# Altium footprint library RLC.PcbLib: 151 footprints (part 7 of 10)
Each footprint in its own frame and in the unit in brackets; x right, y up, seen from the top. Pads: shape width x height; smd on the part's side, far side on the other; paste and mask are expansions set on the pad; w line width, h text height; cw(c..) or ccw(c..) is an arc to the next point about the centre after c.
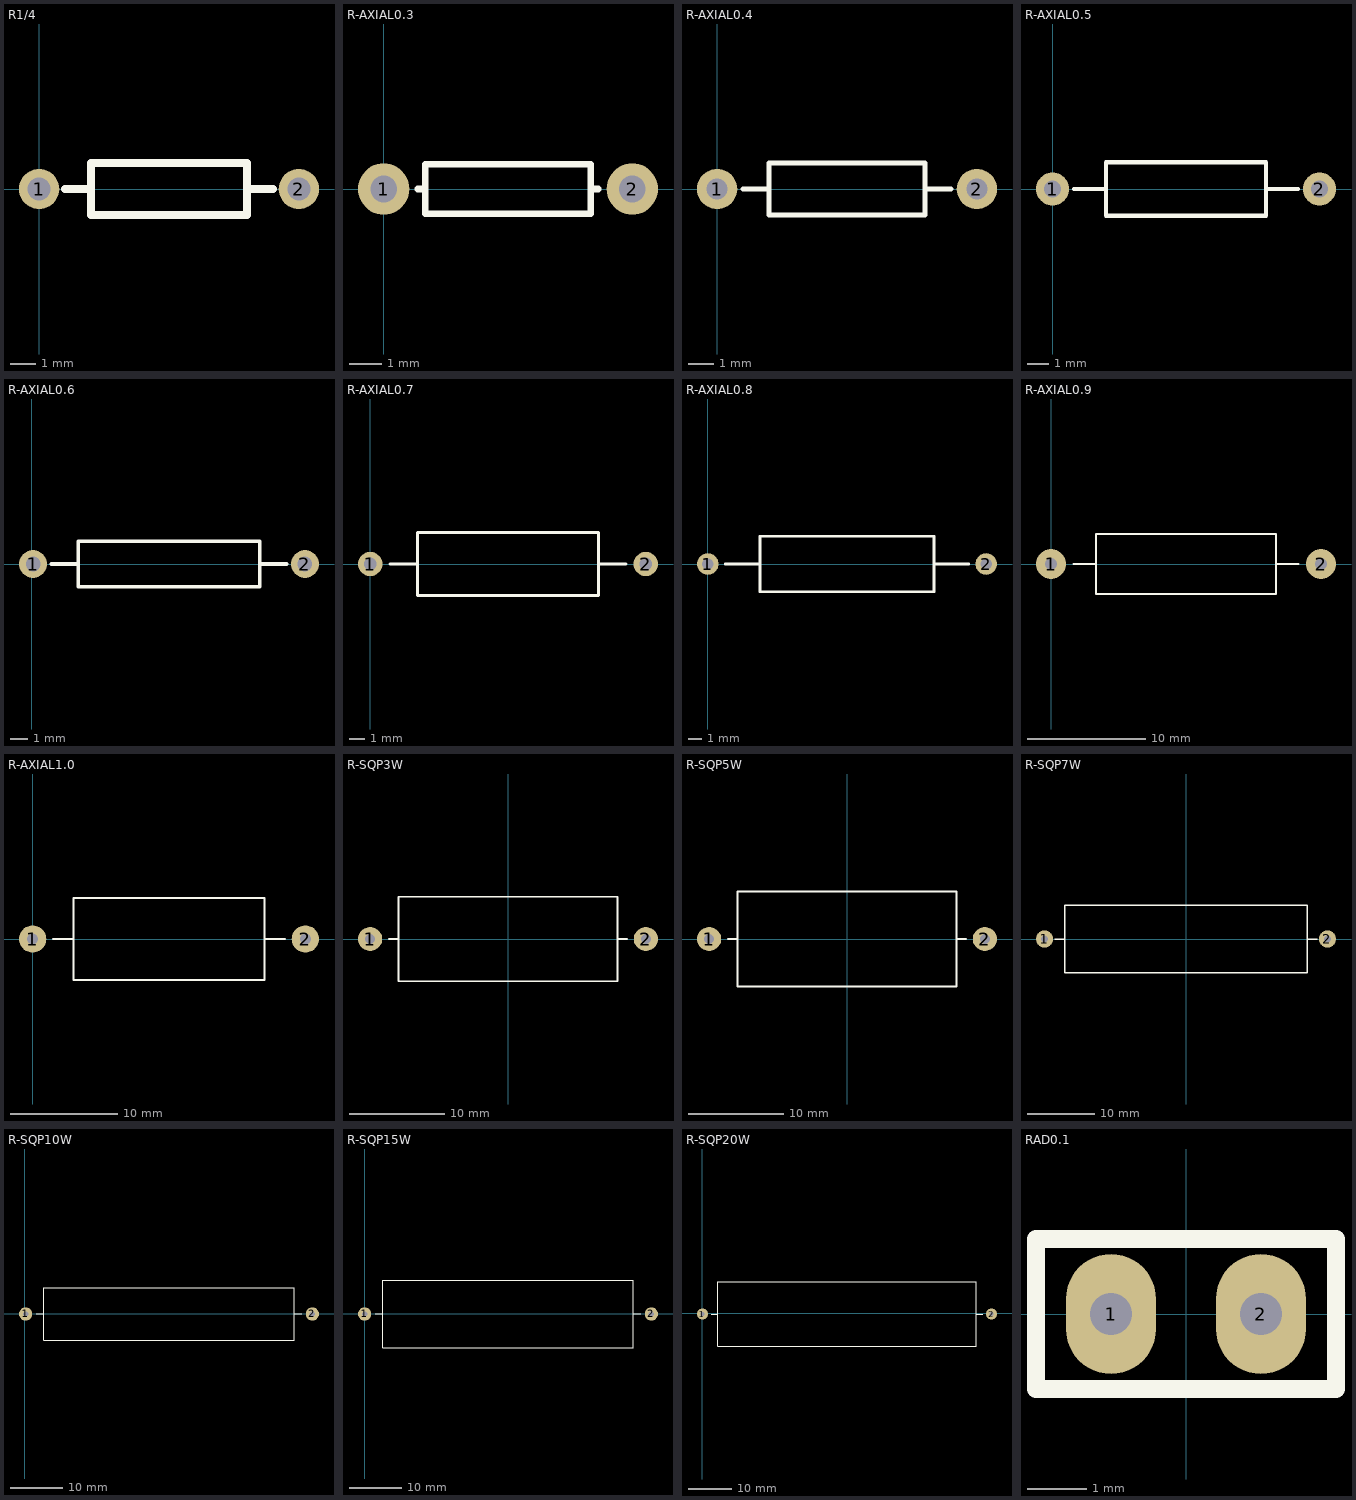
[diagram p6: the footprints below, top view; thin cyan lines are the x and y axes]

## R1/4 [mil]
pads (2):
  round 62 hole 35.43: 1(0,0) 2(400,0)
Top Overlay:
  lines w12: 40,0 80,0 ; 320,0 360,0 ; 80,-40 320,-40 320,40 80,40 80,-40

## R-AXIAL0.3 [mil]
pads (2):
  round 62 hole 32: 1(0,0) 2(300,0)
Top Overlay:
  lines w8: 41,0 50,0 ; 259,0 250,0 ; 250,0 250,-30 50,-30 50,30 250,30 250,0

## R-AXIAL0.4 [mil]
pads (2):
  round 62 hole 32: 1(0,0) 2(400,0)
Top Overlay:
  lines w8: 40,0 80,0 ; 320,0 360,0 ; 80,-40 320,-40 320,40 80,40 80,-40

## R-AXIAL0.5 [mil]
pads (2):
  round 62 hole 32: 1(0,0) 2(500,0)
Top Overlay:
  lines w8: 40,0 100,0 ; 400,0 460,0 ; 100,-50 100,50 400,50 400,-50 100,-50

## R-AXIAL0.6 [mil]
pads (2):
  round 62 hole 32: 1(2.5,0) 2(602.5,0)
Top Overlay:
  lines w8: 42.5,0 102.5,0 ; 502.5,0 562.5,0 ; 102.5,-50 502.5,-50 502.5,50 102.5,50 102.5,-50

## R-AXIAL0.7 [mil]
pads (2):
  round 62 hole 32: 1(0,0) 2(700,0)
Top Overlay:
  lines w8: 50,0 120,0 ; 580,0 650,0 ; 120,-80 120,80 580,80 580,-80 120,-80

## R-AXIAL0.8 [mil]
pads (2):
  round 62 hole 32: 1(0,0) 2(800,0)
Top Overlay:
  lines w8: 50,0 150,0 ; 650,0 750,0 ; 150,-80 650,-80 650,80 150,80 150,-80

## R-AXIAL0.9 [mil]
pads (2):
  round 100 hole 40: 1(0,0) 2(900,0)
Top Overlay:
  lines w8: 75,0 150,0 ; 750,0 825,0 ; 150,-100 150,100 750,100 750,-100 150,-100

## R-AXIAL1.0 [mil]
pads (2):
  round 100 hole 40: 1(0,0) 2(1000,0)
Top Overlay:
  lines w8: 75,0 150,0 ; 850,0 925,0 ; 150,-150 850,-150 850,150 150,150 150,-150

## R-SQP3W [mil]
pads (2):
  round 100 hole 40: 1(-570.87,0) 2(570.87,0)
Top Overlay:
  lines w8: -492.13,0 -452.76,0 ; 452.76,0 492.13,0 ; -452.76,-175 -452.76,175 452.76,175 452.76,-175 -452.76,-175

## R-SQP5W [mil]
pads (2):
  round 100 hole 40: 1(-570.87,0) 2(570.87,0)
Top Overlay:
  lines w8: -492.13,0 -452.76,0 ; 452.76,0 492.13,0 ; -452.76,-196.85 -452.76,196.85 452.76,196.85 452.76,-196.85 -452.76,-196.85

## R-SQP7W [mil]
pads (2):
  round 100 hole 40: 1(-826.77,0) 2(826.77,0)
Top Overlay:
  lines w8: -767.72,0 -708.66,0 ; 708.66,0 767.72,0 ; -708.66,-196.85 708.66,-196.85 708.66,196.85 -708.66,196.85 -708.66,-196.85

## R-SQP10W [mil]
pads (2):
  round 100 hole 40: 1(4.82,-2.5) 2(2170.18,-2.5)
Top Overlay:
  lines w8: 83.56,-2.5 142.62,-2.5 ; 2032.38,-2.5 2091.44,-2.5 ; 142.62,-199.35 142.62,194.35 2032.38,194.35 2032.38,-199.35 142.62,-199.35

## R-SQP15W [mil]
pads (2):
  round 100 hole 40: 1(-0.18,-2.5) 2(2165.18,-2.5)
Top Overlay:
  lines w8: 78.56,-2.5 137.62,-2.5 ; 2027.38,-2.5 2086.44,-2.5 ; 137.62,-258.41 137.62,253.41 2027.38,253.41 2027.38,-258.41 137.62,-258.41

## R-SQP20W [mil]
pads (2):
  round 100 hole 40: 1(3.6,-5) 2(2641.4,-5)
Top Overlay:
  lines w8: 82.34,-5 141.4,-5 ; 2503.6,-5 2562.66,-5 ; 141.4,-300.28 141.4,290.28 2503.6,290.28 2503.6,-300.28 141.4,-300.28

## RAD0.1 [mil]
pads (2):
  oval 60x80 hole 28: 1(-50,0) 2(50,0)
Top Overlay:
  lines w12: -100,-50 100,-50 100,50 -100,50 -100,-50